# EAGLE library part SX70-SONAR-PAD (library openSX70)
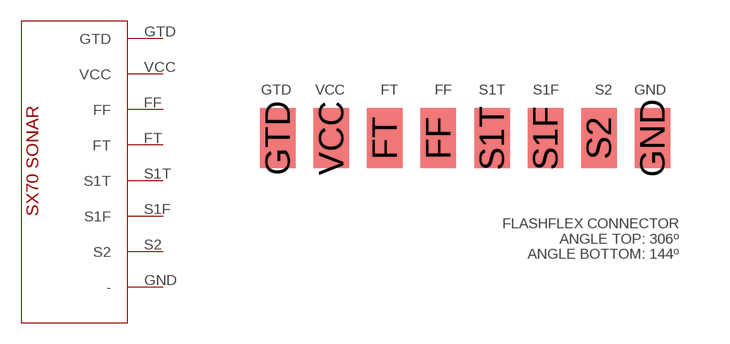
[diagram p3: symbol with the pads of SONAR-FLASHFLEX; footprint SONAR-FLASHFLEX]

Designator prefix -

## SX70-SONAR-PAD  [SONAR-FLASHFLEX]
FF  FF
FT  FT
GND  -
GTD  GTD
S1F  S1F
S1T  S1T
S2  S2
VCC  VCC

## Footprint SONAR-FLASHFLEX (pad centres in mm)
smd 1.06 x 1.78: FF -3.2,-0.8; FT -4.8,-0.8; GND 3.2,-0.8; GTD -8,-0.8; S1F 0,-0.8; S1T -1.6,-0.8; S2 1.6,-0.8; VCC -6.4,-0.8